# Altium schematic symbol library Schlib3.SchLib: 8 symbols
Pins are listed as number, name and electrical type; pins without a type are passive.

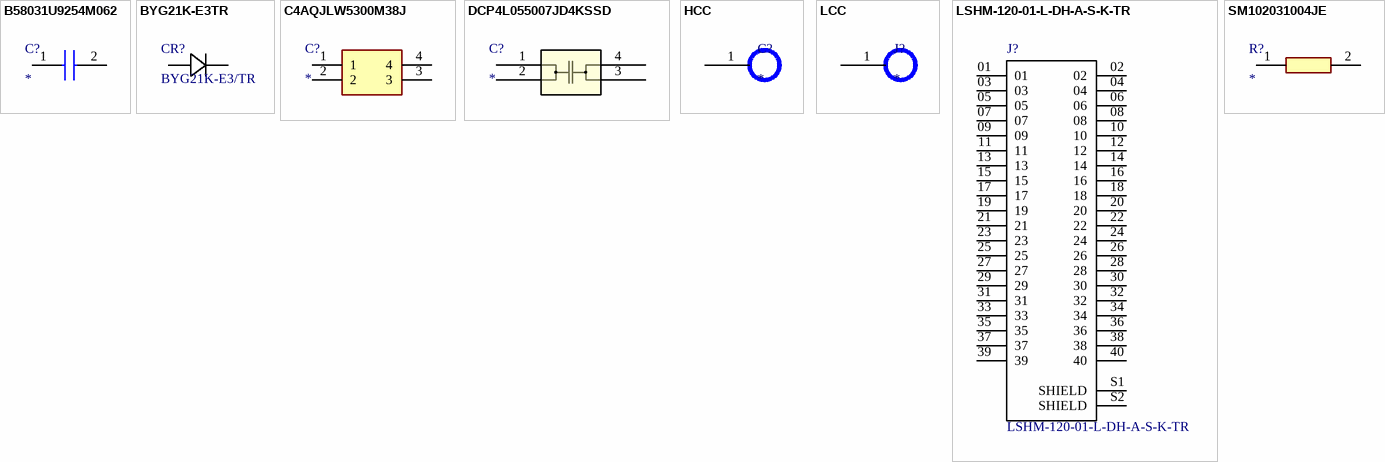
[diagram p0: symbols B58031U9254M062 to SM102031004JE]

## B58031U9254M062
designator C?
Capacitor; Manufacturer_Name: TDK; Manufacturer_Part_Number: B58031U9254M062; Datasheet Link: https://product.tdk.com/system/files/dam/doc/product/capacitor/ceramic/ceralink/data_sheet/20/10/ds/b58031_lp.pdf; Height: 4.5mm; Mouser Part Number: 871-B58031U9254M062; Mouser Price/Stock: https://www.mouser.co.uk/ProductDetail/EPCOS-TDK/B58031U9254M062?qs=Mv7BduZupUir5egwM6Ifng%3D%3D; Arrow Part Number: B58031U9254M062; Arrow Price/Stock: https://www.arrow.com/en/products/b58031u9254m062/tdk?region=europe
footprint B58031U9254M062
pins: 1, 2

## BYG21K-E3TR
designator CR?, comment BYG21K-E3/TR
1.5A,800V,120nS FS AVALANCHE SMD; Manufacturer_Name: Vishay; Copyright: Copyright (C) 2025 Ultra Librarian. All rights reserved.; Manufacturer_Part_Number: BYG21K-E3/TR; Datasheet: https://www.vishay.com/doc?88961
footprint DO-214AC_VIS
pins: 1, 2

## C4AQJLW5300M38J
designator C?
Capacitor; Manufacturer_Name: KEMET; Manufacturer_Part_Number: C4AQJLW5300M38J; Datasheet Link: https://content.kemet.com/datasheets/KEM_F3125_C4AQ_M.pdf; Height: 25.2mm; Mouser Part Number: 80-C4AQJLW5300M38J; Mouser Price/Stock: https://www.mouser.co.uk/ProductDetail/KEMET/C4AQJLW5300M38J?qs=81r%252BiQLm7BQPDIKgnvCGAA%3D%3D
footprint C4AQJLW5300M38J
pins: 1, 2, 3, 4

## DCP4L055007JD4KSSD
designator C?
No Description Available; Mfr_Name: Wima; RefDes: RefDes; Type: Type
footprint DCP4_35.0WX50.0HX41.5L_4PIN_WIM
pins: 1, 2, 3, 4

## HCC
designator C?
footprint 6mm Pad
pins: 1

## LCC
designator J?
footprint PAD 3MM
pins: 1

## LSHM-120-01-L-DH-A-S-K-TR
designator J?
Value: *
footprint *SAMTEC_LSHM-120-01-L-DH-A-S-K-TR_LSHM-120-01-L-DH-A-S-K-TR(Primary)
pins: 01, 02, 03, 04, 05, 06, 07, 08, 09, 10, 11, 12, 13, 14, 15, 16, 17, 18, 19, 20, 21, 22, 23, 24, 25, 26, 27, 28, 29, 30, 31, 32, 33, 34, 35, 36, 37, 38, 39, 40, S1 SHIELD, S2 SHIELD

## SM102031004JE
designator R?
Resistor; Manufacturer_Name: Ohmite; Manufacturer_Part_Number: SM102031004JE; Datasheet Link: https://www.ohmite.com/assets/docs/res_slimmox.pdf?r=false; Height: 8.64mm
footprint SM102031004JE
pins: 1, 2